# EAGLE library part FTSH-105-01-L-D (library USBug)
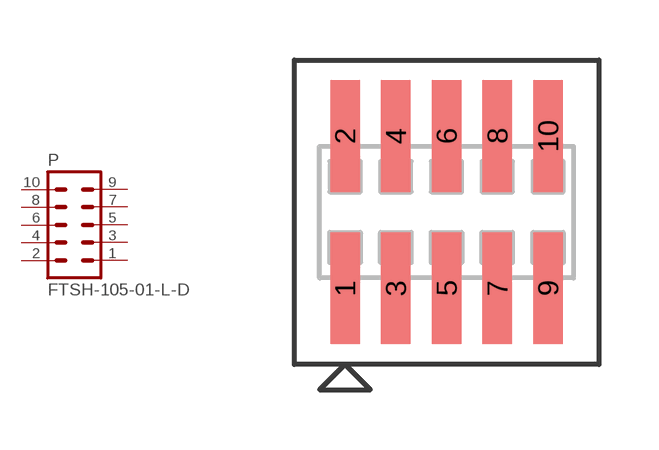
[diagram p0: symbol with the pads of FTSH-105-01-L-D; footprint FTSH-105-01-L-D]

Designator prefix P

## FTSH-105-01-L-D  [FTSH-105-01-L-D]
1  1  pas
2  2  pas
3  3  pas
4  4  pas
5  5  pas
6  6  pas
7  7  pas
8  8  pas
9  9  pas
10  10  pas

## Footprint FTSH-105-01-L-D (pad centres in mm)
Samtech FTSH- 105-01-L-D 0.05" 2x5 SMT Header
smd 0.737 x 2.794: 1 -2.54,-1.905; 2 -2.54,1.905; 3 -1.27,-1.905; 4 -1.27,1.905; 5 0,-1.905; 6 0,1.905; 7 1.27,-1.905; 8 1.27,1.905; 9 2.54,-1.905; 10 2.54,1.905